# Altium footprint library AM2LW-NZ.PcbLib: 1 footprints
Each footprint in its own frame and in the unit in brackets; x right, y up, seen from the top. Pads: shape width x height; smd on the part's side, far side on the other; paste and mask are expansions set on the pad; w line width, h text height; cw(c..) or ccw(c..) is an arc to the next point about the centre after c.
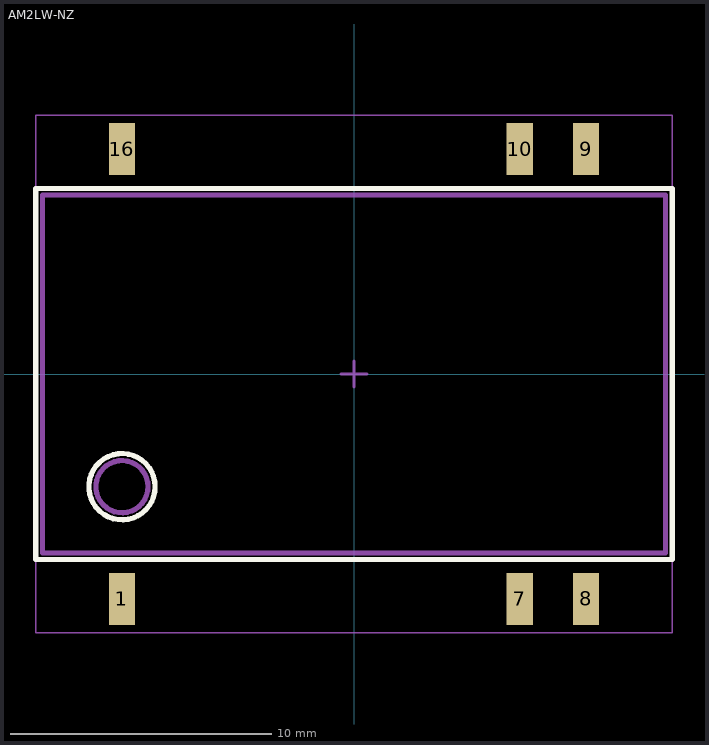
[diagram p0: the footprint, top view; thin cyan lines are the x and y axes]

## AM2LW-NZ [mm] "Aimtec AM2LW-NZ series"
height 8.2
pads (6):
  rect 1x2 smd: 1(-8.89,-8.62) 7(6.35,-8.62) 8(8.89,-8.62) 9(8.89,8.62) 10(6.35,8.62) 16(-8.89,8.62)
Top Overlay:
  circle w0.2: c-8.89,-4.318 r1.27
  lines w0.2: -12.192,-7.112 -12.192,7.112 12.192,7.112 12.192,-7.112 -12.192,-7.112
Mechanical 7:
  circle w0.2: c-8.89,-4.318 r1
  lines w0.05: -12.192,-9.906 -12.192,9.906 12.192,9.906 12.192,-9.906 -12.192,-9.906
  lines w0.2: -11.938,-6.858 -11.938,6.858 11.938,6.858 11.938,-6.858 -11.938,-6.858
Mechanical 15:
  lines w0.1: -0.5,0 0.5,0 ; 0,-0.5 0,0.5
3D body: height 8.2, standoff 0, extent -11.938,-6.858 11.938,6.858